# EAGLE library part F09VPS (library 1A-meinLib)
SUB-D
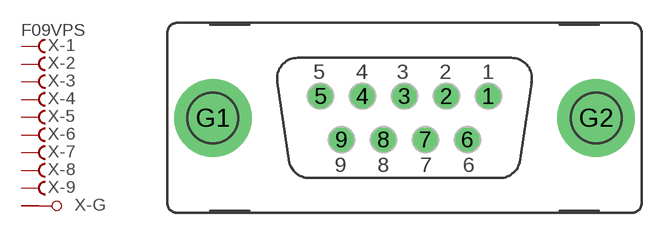
[diagram p300: symbol with the pads of F09VP; footprint F09VP]

Designator prefix X; gates -2=F -3=F -4=F -5=F -6=F -7=F -8=F -9=F -G=GND-1 -1=FV

## F09VPS  [F09VP]
1  -1:F  pas
2  -2:F  pas
3  -3:F  pas
4  -4:F  pas
5  -5:F  pas
6  -6:F  pas
7  -7:F  pas
8  -8:F  pas
9  -9:F  pas
G1  -G:G1  pas
G2  -G:G2  pas

## Footprint F09VP (pad centres in mm)
SUB-D
drill 1.016 octagon: 1 5.486,1.422; 2 2.743,1.422; 3 0,1.422; 4 -2.743,1.422; 5 -5.486,1.422; 6 4.115,-1.422; 7 1.372,-1.422; 8 -1.372,-1.422; 9 -4.115,-1.422
drill 3.302 pad 5.08 round: G1 -12.522,0; G2 12.522,0